# Altium footprint library RFSHIELDS.PcbLib: 3 footprints
Each footprint in its own frame and in the unit in brackets; x right, y up, seen from the top. Pads: shape width x height; smd on the part's side, far side on the other; paste and mask are expansions set on the pad; w line width, h text height; cw(c..) or ccw(c..) is an arc to the next point about the centre after c.
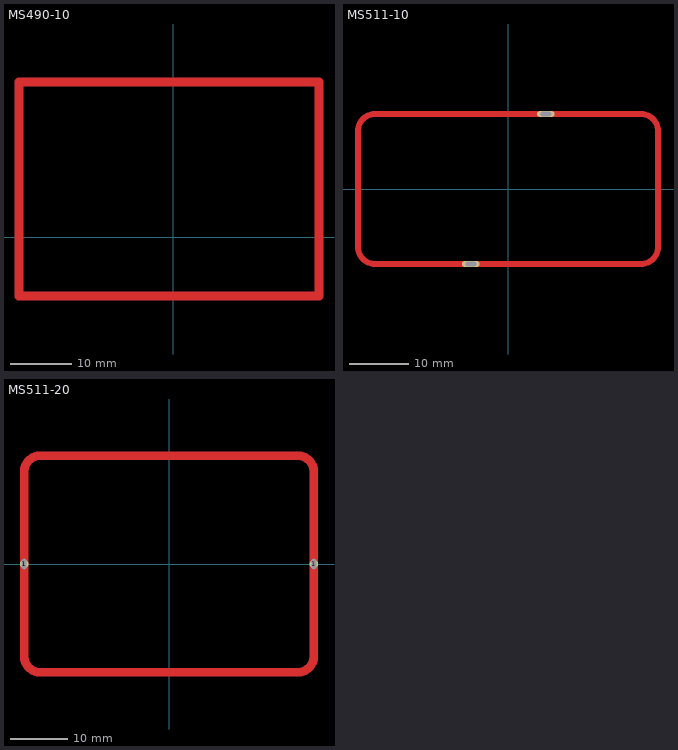
[diagram p0: the footprints below, top view; thin cyan lines are the x and y axes]

## MS490-10 [mm]
Top Layer:
  lines w1.5: -25.019,-9.525 23.681,-9.525 23.681,25.175 -25.019,25.175 -25.019,-9.525

## MS511-10 [mm]
pads (2):
  oval 3x1 hole 0.8 slot 1.8 at 0 deg unplated: 1(-6.35,-12.7) 1(6.35,12.7)
Top Layer:
  lines w1: -25.45,-9.85 ccw(c-22.6,-9.85) -22.6,-12.7 22.5,-12.7 ccw(c22.5,-9.85) 25.35,-9.85 25.35,0 25.35,9.85 ccw(c22.5,9.85) 22.5,12.7 -22.6,12.7 ccw(c-22.6,9.85) -25.45,9.85 -25.45,0 -25.45,-9.85
Top Solder:
  lines w1: -25.45,-9.85 ccw(c-22.6,-9.85) -22.6,-12.7 22.5,-12.7 ccw(c22.5,-9.85) 25.35,-9.85 25.35,0 25.35,9.85 ccw(c22.5,9.85) 22.5,12.7 -22.6,12.7 ccw(c-22.6,9.85) -25.45,9.85 -25.45,0 -25.45,-9.85
3D body "MS511-10F.step": height 6.51, standoff -0.59, extent -25.55,-12.85 25.55,12.85

## MS511-20 [mm]
pads (2):
  round 1.5 hole 0.8 slot 1.8 at 90 deg: 1(-25.4,0) 1(25.4,0)
Top Layer:
  lines w0.2: -25.527,5.334 -25.4,5.207
  lines w1.5: -25.4,-16.2 ccw(c-22.55,-16.148) -22.55,-18.998 22.55,-18.998 ccw(c22.55,-16.148) 25.4,-16.2 25.4,0 25.4,16.2 ccw(c22.55,16.148) 22.55,18.998 -22.55,18.998 ccw(c-22.55,16.148) -25.4,16.2 -25.4,0 -25.4,-16.2
3D body "MS511-20F.step": height 6.51, standoff -0.59, extent -25.527,-19.327 25.573,19.073